# Altium integrated library VEMD2020X01.IntLib: 1 symbol
Pins are listed as number, name and electrical type; pins without a type are passive.

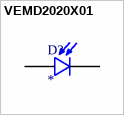
[diagram p0: symbol VEMD2020X01]

## VEMD2020X01
designator D?
Photodiode 940nm 100ns 30Â° 2-SMD, Gull Wing; MF: Vishay Semiconductor; MP: VEMD2020X01; SnapEDA_Link: https://www.snapeda.com/parts/VEMD2020X01/Vishay+Semiconductor+Opto+Division/view-part/?ref=snap; Package: None; Value: *; Check_prices: https://www.snapeda.com/parts/VEMD2020X01/Vishay+Semiconductor+Opto+Division/view-part/?ref=eda
footprint XDCR_VEMD2020X01
pins: A, C